# EAGLE library part VNH5019A-E (library VNH5019A-E)
H-Bridge Motor Driver 30A Auto PowerSO30 STMicroelectronics VNH5019A-E Motor Driver,, H-Bridge Motor Driver, 30-Pin MultiPowerSO <https://componentsearchengine.com/Images/1/VNH5019A-E.JPG> Source: Datasheet <http://docs-europe.electrocomponents.com/webdocs/140d/0900766b8140dac2.pdf>
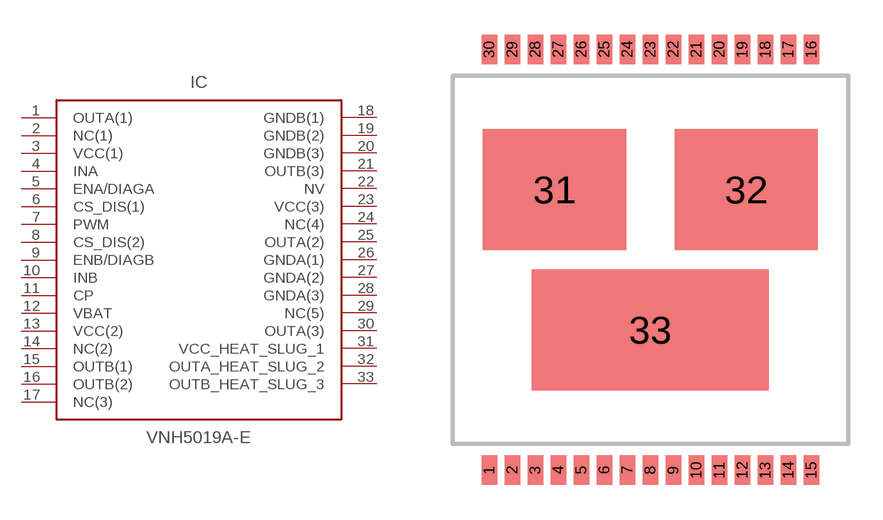
[diagram p0: symbol with the pads of VNH5019A-E_1; footprint VNH5019A-E_1]

Designator prefix IC

## VNH5019A-E (Description: H-Bridge Motor Driver 30A Auto PowerSO30 STMicroelectronics VNH5019A-E Motor Driver,, H-Bridge Motor Driver, 30-Pin MultiPowerSO; Height: mm; Manufacturer_Name: STMicroelectronics; Manufacturer_Part_Number: VNH5019A-E; RS_Part_Number: 8805550P; Supplier_Name: RS)  [VNH5019A-E_1]
1  OUTA(1)  out
2  NC(1)  pas
3  VCC(1)  pwr
4  INA  in
5  ENA/DIAGA  pas
6  CS_DIS(1)  in
7  PWM  pas
8  CS_DIS(2)  in
9  ENB/DIAGB  pas
10  INB  in
11  CP  pas
12  VBAT  pas
13  VCC(2)  pwr
14  NC(2)  pas
15  OUTB(1)  out
16  OUTB(2)  out
17  NC(3)  pas
18  GNDB(1)  pwr
19  GNDB(2)  pwr
20  GNDB(3)  pwr
21  OUTB(3)  out
22  NV  pas
23  VCC(3)  pwr
24  NC(4)  pas
25  OUTA(2)  out
26  GNDA(1)  pwr
27  GNDA(2)  pwr
28  GNDA(3)  pwr
29  NC(5)  pas
30  OUTA(3)  out
31  VCC_HEAT_SLUG_1  pwr
32  OUTA_HEAT_SLUG_2  out
33  OUTB_HEAT_SLUG_3  out

## Footprint VNH5019A-E_1 (pad centres in mm)
VNH5019A-E_1
smd 0.68 x 1.3: 1 -13,-15.15; 2 -12,-15.15; 3 -11,-15.15; 4 -10,-15.15; 5 -9,-15.15; 6 -8,-15.15; 7 -7,-15.15; 8 -6,-15.15; 9 -5,-15.15; 10 -4,-15.15; 11 -3,-15.15; 12 -2,-15.15; 13 -1,-15.15; 14 0,-15.15; 15 1,-15.15; 16 1,3.15; 17 0,3.15; 18 -1,3.15; 19 -2,3.15; 20 -3,3.15; 21 -4,3.15; 22 -5,3.15; 23 -6,3.15; 24 -7,3.15; 25 -8,3.15; 26 -9,3.15; 27 -10,3.15; 28 -11,3.15; 29 -12,3.15; 30 -13,3.15
smd 6.23 x 5.25: 31 -10.165,-2.95; 32 -1.835,-2.95
smd 10.3 x 5.25: 33 -6,-9.05